# Altium footprint library CR2032_Holder.PcbLib: 2 footprints
Each footprint in its own frame and in the unit in brackets; x right, y up, seen from the top. Pads: shape width x height; smd on the part's side, far side on the other; paste and mask are expansions set on the pad; w line width, h text height; cw(c..) or ccw(c..) is an arc to the next point about the centre after c.
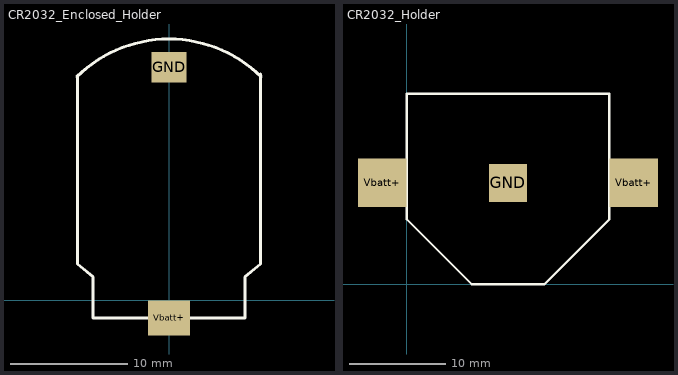
[diagram p0: the footprints below, top view; thin cyan lines are the x and y axes]

## CR2032_Enclosed_Holder [mm] "Harwin S8421-45R"
height 5.4
pads (2):
  rect 3x2.6 smd: GND(0,19.9)
  rect 3.6x3 smd: Vbatt+(0,-1.5)
Top Overlay:
  lines w0.254: -7.87,19.069 cw(c0,11.1) 7.869,19.07 ; -7.8,19.168 -7.8,3.1 -6.5,2 -6.5,-1.5 6.5,-1.5 6.5,2 7.8,3.1 7.8,19.3
3D body: height 5.4, standoff 0, extent -7.875,-1.501 7.875,22.311

## CR2032_Holder [mm] "battery holder cr2032"
height 3.96
pads (3):
  rect 3.96x3.96 smd: GND(10.555,10.58)
  rect 5.08x5.08 smd: Vbatt+(-2.54,10.58) Vbatt+(23.65,10.58)
Top Overlay:
  lines w0.254: 0,6.782 0,19.863 21.107,19.863 21.107,6.756 14.351,0 6.782,0 0,6.782
3D body: height 3.96, standoff 0, extent -0.001,-0.001 21.108,19.863